# Altium footprint library Diode SOD-123.PcbLib: 2 footprints
Each footprint in its own frame and in the unit in brackets; x right, y up, seen from the top. Pads: shape width x height; smd on the part's side, far side on the other; paste and mask are expansions set on the pad; w line width, h text height; cw(c..) or ccw(c..) is an arc to the next point about the centre after c.
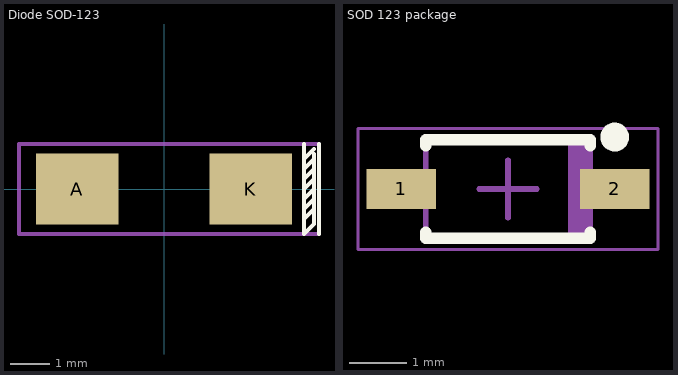
[diagram p0: the footprints below, top view; thin cyan lines are the x and y axes]

## Diode SOD-123 [mm]
pads (2):
  rect 2.1x1.8 smd: A(-2.2,0) K(2.2,0)
Top Overlay:
  lines w0.1: 3.556,-0.508 3.81,-0.254 ; 3.556,-0.254 3.81,0 ; 3.556,0 3.81,0.254 ; 3.556,0.254 3.81,0.508 ; 3.556,0.508 3.81,0.762 ; 3.556,0.762 3.81,1.016 ; 3.556,1.143 3.556,-1.143 ; 3.81,-0.508 3.556,-0.762 3.556,-1.143 ; 3.81,0.889 3.81,-0.889 3.556,-1.143 ; 3.937,-1.143 3.937,1.143
Mechanical 1:
  lines w0.1: 3.556,-1.143 2.65,-1.143 ; 3.937,-1.143 2.65,-1.143 ; 3.937,1.143 3.556,1.143 2.65,1.143 -2.65,1.143 -3.683,1.143 -3.683,-1.143 -2.65,-1.143 2.65,-1.143
3D body: height 1.42, standoff -0.03, extent -2.052,-0.889 1.798,0.811

## SOD 123 package [mm]
height 3
pads (2):
  rect 1.2x0.7 smd: 1(-1250.26,-1252.22) 2(-1246.56,-1252.22)
Top Overlay:
  circle w0.25: c-1246.56,-1251.32 r0.125
  lines w0.2: -1249.835,-1252.97 -1249.835,-1253.07 -1246.985,-1253.07 -1246.985,-1252.97 ; -1249.835,-1251.47 -1249.835,-1251.37 -1246.985,-1251.37 -1246.985,-1251.47
Mechanical 13:
  rectangle: -1247.368,-1253.07 -1246.985,-1251.37
  lines w0.1: -1249.835,-1253.07 -1246.985,-1253.07 -1246.985,-1251.37 -1249.835,-1251.37 -1249.835,-1253.07
Mechanical 15:
  lines w0.05: -1251.01,-1253.27 -1245.81,-1253.27 -1245.81,-1251.17 -1251.01,-1251.17 -1251.01,-1253.27
  lines w0.1: -1248.91,-1252.22 -1247.91,-1252.22 ; -1248.41,-1252.72 -1248.41,-1251.72
3D body: height 1.45, standoff 0, extent -1249.835,-1253.07 -1246.985,-1251.37